# Altium footprint library 6POS JST.PcbLib: 1 footprints
Each footprint in its own frame and in the unit in brackets; x right, y up, seen from the top. Pads: shape width x height; smd on the part's side, far side on the other; paste and mask are expansions set on the pad; w line width, h text height; cw(c..) or ccw(c..) is an arc to the next point about the centre after c.
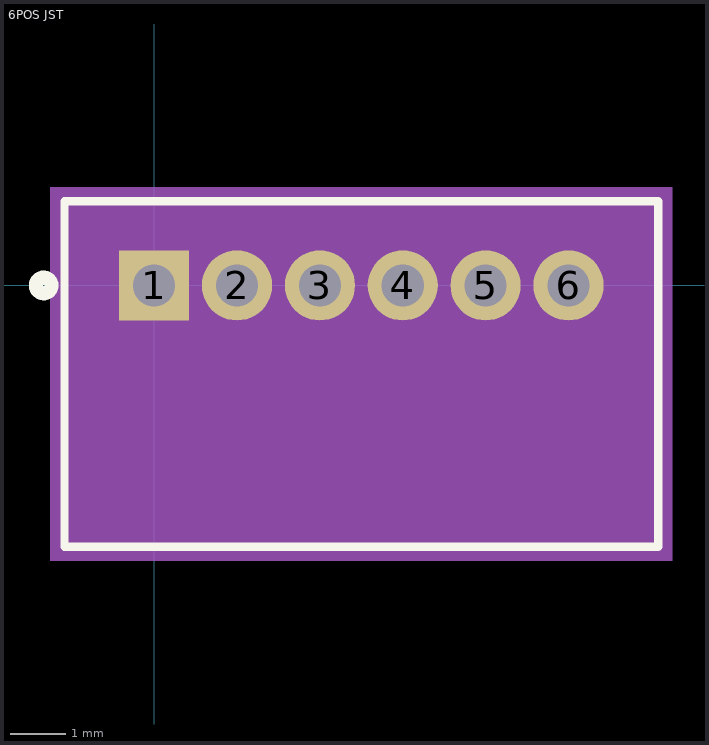
[diagram p0: the footprint, top view; thin cyan lines are the x and y axes]

## 6POS JST [mil]
pads (6):
  rect 50x50 hole 30 mask+0: 1(0,0)
  round 50 hole 30 mask+0: 2(59.06,0) 3(118.11,0) 4(177.17,0) 5(236.22,0) 6(295.28,0)
Top Overlay:
  circle w10: c-78.74,0 r5.57
  lines w6: -63.86,-186.1 359.14,-186.1 359.14,59.9 -63.86,59.9 -63.86,-186.1
Mechanical 5:
  region: -73.86,69.9 369.14,69.9 369.14,-196.1 -73.86,-196.1
Mechanical 13:
  lines w1: -58.86,-181.1 354.14,-181.1 354.14,54.9 -58.86,54.9 -58.86,-181.1
Mechanical 15:
  region: 364.14,64.9 -68.86,64.9 -68.86,-191.1 364.14,-191.1
  lines w6: -68.86,-191.1 -68.86,64.9 364.14,64.9 364.14,-191.1 -68.86,-191.1
3D body: height 10, standoff 0, extent 0,0 10,10